# Altium footprint library HGH.PcbLib: 336 footprints (part 1 of 21)
Each footprint in its own frame and in the unit in brackets; x right, y up, seen from the top. Pads: shape width x height; smd on the part's side, far side on the other; paste and mask are expansions set on the pad; w line width, h text height; cw(c..) or ccw(c..) is an arc to the next point about the centre after c.
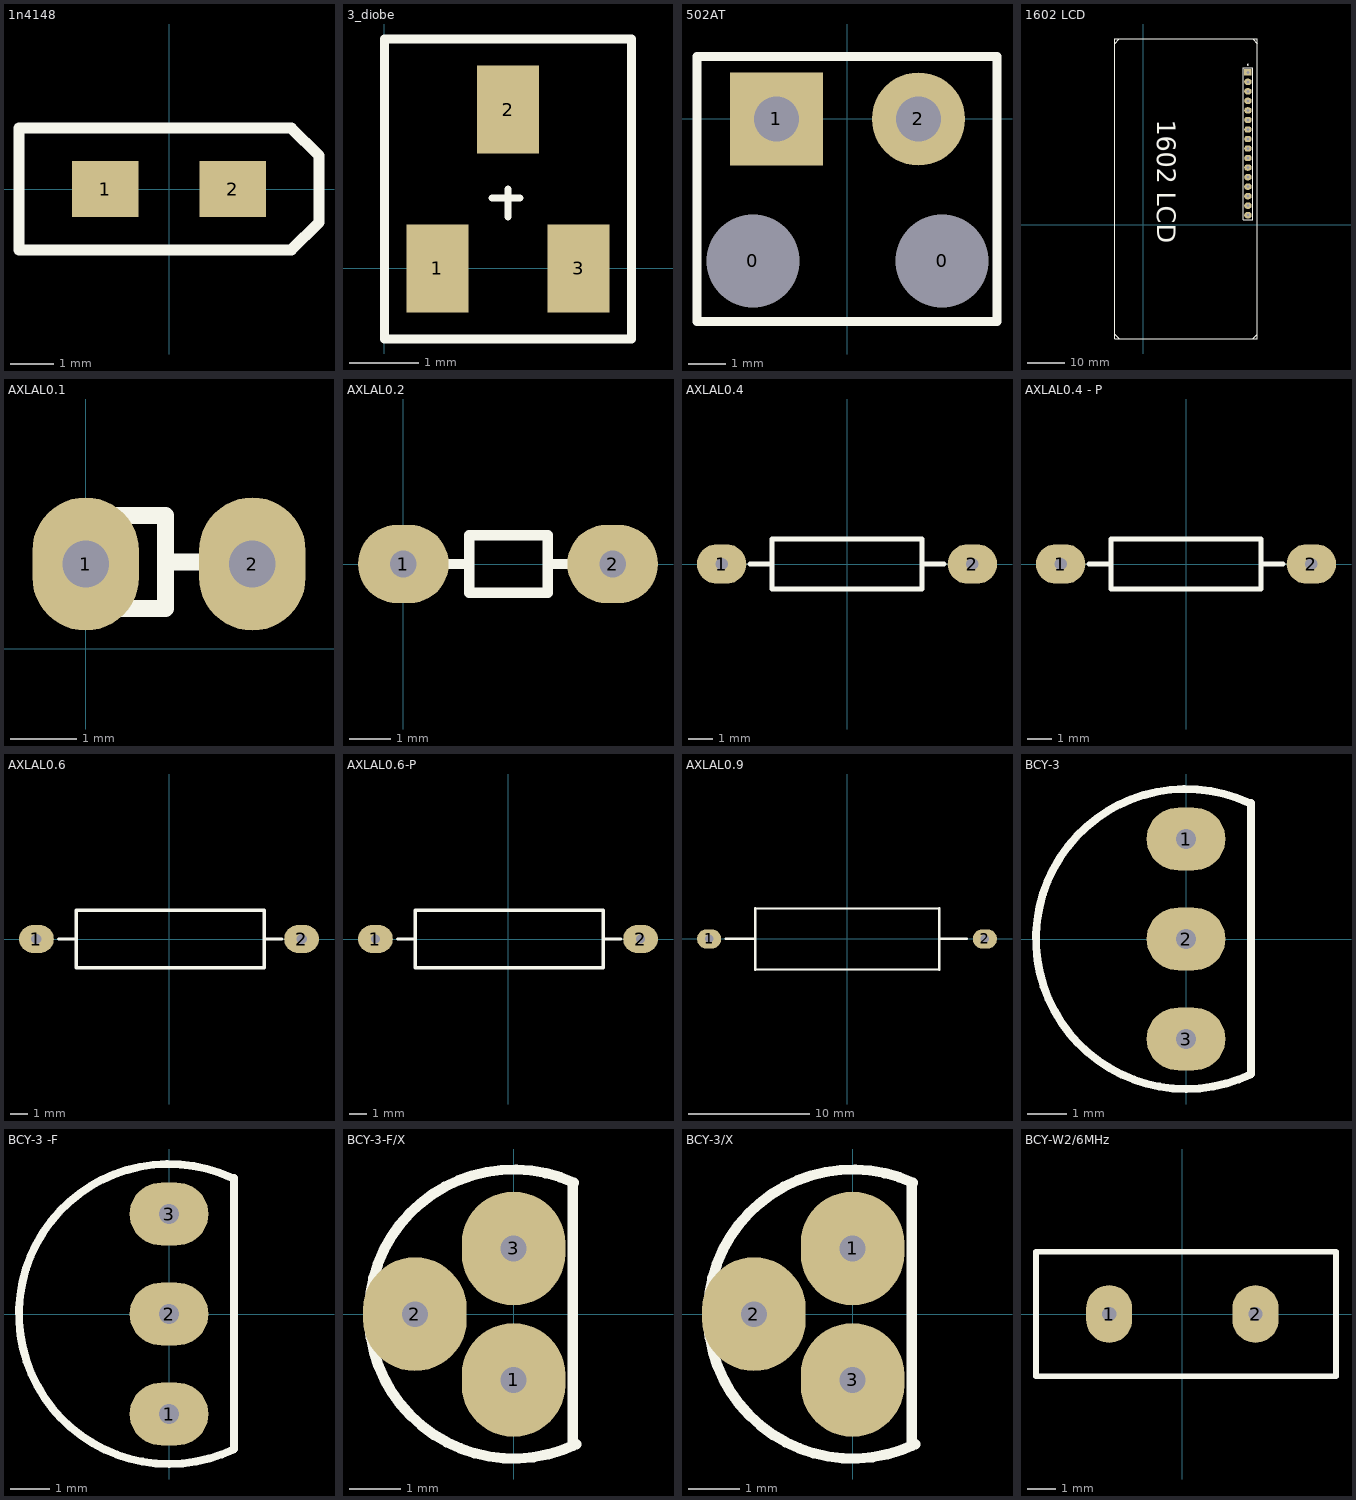
[diagram p0: the footprints below, top view; thin cyan lines are the x and y axes]

## 1n4148 [mil]
pads (2):
  rect 60x50 smd: 1(-57.5,0) 2(57.5,0)
Top Overlay:
  lines w10: -135,-55 110,-55 135,-30 135,30 110,55 -135,55 -135,-55

## 3_diobe [mil]
pads (3):
  rect 35x50 smd: 1(30,0) 2(70,90) 3(110,0)
Top Overlay:
  lines w3.94: 61.02,40 76.77,40 ; 70,29.25 70,45
  lines w5: 0,-40 140,-40 140,130 0,130 0,125 0,-40

## 502AT [mm]
pads (4):
  round 1.524 hole 2.5: 0(-2.54,-3.81) 0(2.54,-3.81)
  rect 2.5x2.5 hole 1.2: 1(-1.905,0)
  round 2.5 hole 1.2: 2(1.905,0)
Top Overlay:
  lines w0.254: -4.039,-5.436 4.013,-5.436 4.013,1.676 -4.039,1.676 -4.039,-5.436

## 1602 LCD [mm] "LCD"
pads (16):
  rect 2x1.7 hole 0.8: 1(27.94,40.64)
  oval 2x1.7 hole 0.8: 2(27.94,38.1) 3(27.94,35.56) 4(27.94,33.02) 5(27.94,30.48) 6(27.94,27.94) 7(27.94,25.4) 8(27.94,22.86) 9(27.94,20.32) 10(27.94,17.78) 11(27.94,15.24) 12(27.94,12.7) 13(27.94,10.16) 14(27.94,7.62) 15(27.94,5.08) 16(27.94,2.54)
Top Overlay:
  circle w0.25: c27.94,42.67 r0.125
  lines w0.2: 26.67,1.27 29.21,1.27 29.21,40.005 29.21,41.91 26.67,41.91 26.67,1.27
  lines w0.254: -7.62,-29.21 -6.35,-30.48 ; -7.62,48.26 -6.35,49.53 ; 29.21,-30.48 30.48,-29.21 ; 29.21,49.53 30.48,49.53 30.48,48.26 ; 29.21,49.53 25.4,49.53 -7.62,49.53 -7.62,-11.43 -7.62,-30.48 25.4,-30.48 30.48,-30.48 30.48,-29.21 ; 29.21,49.53 30.48,48.26 ; 30.48,-29.21 30.48,48.26
  text "1602 LCD" at 3.81,27.94 h5

## AXLAL0.1 [mm]
pads (2):
  oval 1.6x2 hole 0.7: 1(0,1.27) 2(2.504,1.27)
Top Overlay:
  lines w0.254: 1.2,1.3 2.474,1.3 2.504,1.27 ; 0.4,0.6 0.4,2 1.2,2 1.2,0.6 0.4,0.6

## AXLAL0.2 [mm]
pads (2):
  oval 2.2x1.9 hole 0.65: 1(0,0) 2(5.08,0)
Top Overlay:
  lines w0.254: 0.9,0 1.6,0 ; 3.6,0 4.2,0 ; 1.6,-0.7 1.6,0.7 3.5,0.7 3.5,-0.7 1.6,-0.7

## AXLAL0.4 [mm]
pads (2):
  oval 2x1.6 hole 0.5: 1(-5.08,0) 2(5.08,0)
Top Overlay:
  lines w0.2: -3.937,0 -3.048,0 ; 3.048,0 3.937,0 ; -3.048,-1.016 3.048,-1.016 3.048,1.016 -3.048,1.016 -3.048,-1.016

## AXLAL0.4 - P [mm]
pads (2):
  oval 2x1.6 hole 0.5: 1(-5.08,0) 2(5.08,0)
Top Overlay:
  lines w0.2: -3.937,0 -3.048,0 ; 3.048,0 3.937,0 ; -3.048,-1.016 3.048,-1.016 3.048,1.016 -3.048,1.016 -3.048,-1.016

## AXLAL0.6 [mm]
pads (2):
  oval 2x1.6 hole 0.6: 1(-7.62,0) 2(7.62,0)
Top Overlay:
  lines w0.2: -6.35,0 -5.334,0 ; 5.461,0 6.477,0 ; -5.334,-1.651 -5.334,1.651 5.461,1.651 5.461,-1.651 -5.334,-1.651

## AXLAL0.6-P [mm]
pads (2):
  oval 2x1.6 hole 0.5: 1(-7.62,0) 2(7.62,0)
Top Overlay:
  lines w0.2: -6.35,0 -5.334,0 ; 5.461,0 6.477,0 ; -5.334,-1.651 -5.334,1.651 5.461,1.651 5.461,-1.651 -5.334,-1.651

## AXLAL0.9 [mm]
pads (2):
  oval 2x1.6 hole 0.7: 1(-11.43,0) 2(11.43,0)
Top Overlay:
  lines w0.2: -10.064,0 -7.672,0 ; -7.622,2.522 7.63,2.532 ; -7.595,-2.542 -7.595,2.54 ; -7.595,-2.532 7.645,-2.552 ; 7.64,2.512 7.65,-2.532 ; 7.75,0 9.942,0

## BCY-3 [mm]
pads (3):
  oval 2x1.6 hole 0.5: 1(0,2.54) 2(0,0) 3(0,-2.54)
Top Overlay:
  lines w0.2: 1.597,3.459 ccw(c0,0) 1.653,-3.433 ; 1.651,-3.429 1.651,3.452

## BCY-3 -F [mm]
pads (3):
  oval 2x1.6 hole 0.5: 1(0,-2.54) 2(0,0) 3(0,2.54)
Top Overlay:
  lines w0.2: 1.597,3.459 ccw(c0,0) 1.653,-3.433 ; 1.651,-3.429 1.651,3.452

## BCY-3-F/X [mm]
pads (3):
  oval 2x2.2 hole 0.5: 1(0,-1.27) 2(-1.905,0) 3(0,1.27)
Top Overlay:
  lines w0.2: 1.143,-2.54 1.143,2.54 ; 1.168,2.539 ccw(c-0.002,0.004) 1.209,-2.512

## BCY-3/X [mm]
pads (3):
  oval 2x2.2 hole 0.5: 1(0,1.27) 2(-1.905,0) 3(0,-1.27)
Top Overlay:
  lines w0.2: 1.143,-2.54 1.143,2.54 ; 1.168,2.539 ccw(c-0.002,0.004) 1.209,-2.512

## BCY-W2/6MHz [mm]
pads (2):
  oval 1.6x2 hole 0.5: 1(-2.54,0) 2(2.54,0)
Top Overlay:
  lines w0.2: -5.08,-2.159 5.334,-2.159 5.334,2.159 -5.08,2.159 -5.08,-2.159